# Altium schematic symbol library Inductors (CDRH105R).SchLib: 1 symbol
Pins are listed as number, name and electrical type; pins without a type are passive.

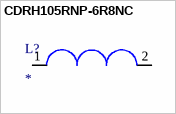
[diagram p0: symbol CDRH105RNP-6R8NC]

## CDRH105RNP-6R8NC
designator L?
6.8µH Shielded Inductor 5.4A 18mOhm Max Nonstandard; Value: 6.8 uH; Tolerance: ±30%; Tamperature range: -40 to +100 °C; Saturation current: 6.3A
footprint Inductor 10.5x10.3x5.1mm
pins: 1, 2